# Altium footprint library HVSSOP_DGN.PcbLib: 3 footprints
Each footprint in its own frame and in the unit in brackets; x right, y up, seen from the top. Pads: shape width x height; smd on the part's side, far side on the other; paste and mask are expansions set on the pad; w line width, h text height; cw(c..) or ccw(c..) is an arc to the next point about the centre after c.
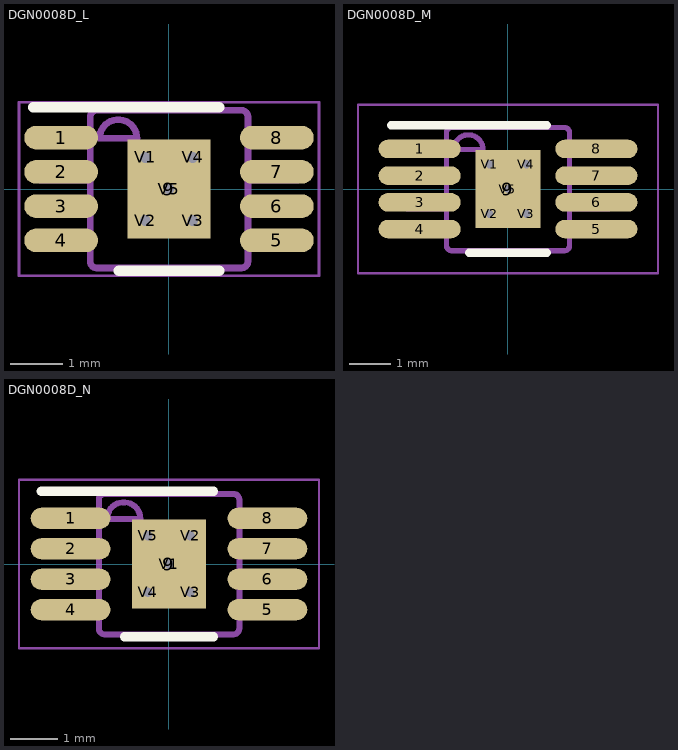
[diagram p0: the footprints below, top view; thin cyan lines are the x and y axes]

## DGN0008D_L [mm]
pads (14):
  oval 1.4x0.45 smd paste+0 mask+0.051: 1(-2.05,0.975) 2(-2.05,0.325) 3(-2.05,-0.325) 4(-2.05,-0.975) 5(2.05,-0.975) 6(2.05,-0.325) 7(2.05,0.325) 8(2.05,0.975)
  rect 1.57x1.89 smd paste+0 mask+0.051: 9(0,0)
  round 0.5 hole 0.203 mask+0.051: V1(-0.45,0.6) V2(-0.45,-0.6) V3(0.45,-0.6) V4(0.45,0.6) V5(0,0)
Top Overlay:
  lines w0.2: -2.575,1.55 0.95,1.55 ; -0.95,-1.55 0.95,-1.55
Mechanical 13:
  lines w0.127: -2.45,-1.131 -2.21,-1.131 -2.09,-1.131 -2.087,-1.131 -1.784,-1.131 -1.498,-1.131 -1.498,-0.826 -1.784,-0.826 -2.087,-0.826 -2.09,-0.826 -2.21,-0.826 -2.45,-0.826 -2.45,-1.131 ; -2.45,-0.48 -2.21,-0.48 -2.09,-0.48 -2.087,-0.48 -1.784,-0.48 -1.498,-0.48 -1.498,-0.175 -1.784,-0.175 -2.087,-0.175 -2.09,-0.175 -2.21,-0.175 -2.45,-0.175 -2.45,-0.48 ; -2.45,0.17 -2.21,0.17 -2.09,0.17 -2.087,0.17 -1.784,0.17 -1.498,0.17 -1.498,0.475 -1.784,0.475 -2.087,0.475 -2.09,0.475 -2.21,0.475 -2.45,0.475 -2.45,0.17 ; -2.45,0.82 -2.21,0.82 -2.09,0.82 -2.087,0.82 -1.784,0.82 -1.498,0.82 -1.498,1.125 -1.784,1.125 -2.087,1.125 -2.09,1.125 -2.21,1.125 -2.45,1.125 -2.45,0.82 ; -1.497,-1.377 ccw(c-1.37,-1.374) -1.373,-1.501 -1.371,-1.501 1.373,-1.501 1.375,-1.501 ccw(c1.373,-1.374) 1.5,-1.377 1.5,-1.374 1.5,1.369 1.5,1.372 ccw(c1.373,1.369) 1.375,1.496 1.373,1.496 -1.371,1.496 -1.373,1.496 ccw(c-1.37,1.369) -1.497,1.372 -1.498,1.369 -1.498,-1.374 -1.497,-1.377 ; -1.32,0.962 cw(c-0.964,0.962) -0.609,0.962 -1.32,0.962 ; 1.5,-1.131 1.5,-0.826 1.786,-0.826 2.089,-0.826 2.093,-0.826 2.213,-0.826 2.452,-0.826 2.452,-1.131 2.213,-1.131 2.093,-1.131 2.089,-1.131 1.786,-1.131 1.5,-1.131 ; 1.5,-0.48 1.5,-0.175 1.786,-0.175 2.089,-0.175 2.093,-0.175 2.213,-0.175 2.452,-0.175 2.452,-0.48 2.213,-0.48 2.093,-0.48 2.089,-0.48 1.786,-0.48 1.5,-0.48 ; 1.5,0.17 1.5,0.475 1.786,0.475 2.089,0.475 2.093,0.475 2.213,0.475 2.452,0.475 2.452,0.17 2.213,0.17 2.093,0.17 2.089,0.17 1.786,0.17 1.5,0.17 ; 1.5,0.82 1.5,1.125 1.786,1.125 2.089,1.125 2.093,1.125 2.213,1.125 2.452,1.125 2.452,0.82 2.213,0.82 2.093,0.82 2.089,0.82 1.786,0.82 1.5,0.82
  text ".Designator" at -1.175,-0.96 h1.27
Mechanical 15:
  lines w0.05: -2.85,-1.65 2.85,-1.65 2.85,1.65 -2.85,1.65 -2.85,-1.65
  lines w0.1: -0.5,0 0.5,0 ; 0,-0.5 0,0.5
3D body "HVSSOP_DGN8D.stp": height 0.96, standoff -0.11, extent -2.45,-1.5 2.45,1.5

## DGN0008D_M [mm]
pads (14):
  oval 2x0.45 smd paste+0 mask+0.051: 1(-2.15,0.975) 2(-2.15,0.325) 3(-2.15,-0.325) 4(-2.15,-0.975) 5(2.15,-0.975) 6(2.15,-0.325) 7(2.15,0.325) 8(2.15,0.975)
  rect 1.57x1.89 smd paste+0 mask+0.051: 9(0,0)
  round 0.5 hole 0.203 mask+0.051: V1(-0.45,0.6) V2(-0.45,-0.6) V3(0.45,-0.6) V4(0.45,0.6) V5(0,0)
Top Overlay:
  lines w0.2: -2.85,1.55 0.95,1.55 ; -0.95,-1.55 0.95,-1.55
Mechanical 13:
  lines w0.127: -2.45,-1.131 -2.45,-0.826 -2.21,-0.826 -2.09,-0.826 -2.087,-0.826 -1.784,-0.826 -1.498,-0.826 -1.498,-1.131 -1.784,-1.131 -2.087,-1.131 -2.09,-1.131 -2.21,-1.131 -2.45,-1.131 ; -2.45,-0.48 -2.45,-0.175 -2.21,-0.175 -2.09,-0.175 -2.087,-0.175 -1.784,-0.175 -1.498,-0.175 -1.498,-0.48 -1.784,-0.48 -2.087,-0.48 -2.09,-0.48 -2.21,-0.48 -2.45,-0.48 ; -2.45,0.17 -2.45,0.475 -2.21,0.475 -2.09,0.475 -2.087,0.475 -1.784,0.475 -1.498,0.475 -1.498,0.17 -1.784,0.17 -2.087,0.17 -2.09,0.17 -2.21,0.17 -2.45,0.17 ; -2.45,0.82 -2.45,1.125 -2.21,1.125 -2.09,1.125 -2.087,1.125 -1.784,1.125 -1.498,1.125 -1.498,0.82 -1.784,0.82 -2.087,0.82 -2.09,0.82 -2.21,0.82 -2.45,0.82 ; -1.497,-1.377 ccw(c-1.37,-1.374) -1.373,-1.501 -1.371,-1.501 1.373,-1.501 1.375,-1.501 ccw(c1.373,-1.374) 1.5,-1.377 1.5,-1.374 1.5,1.369 1.5,1.372 ccw(c1.373,1.369) 1.375,1.496 1.373,1.496 -1.371,1.496 -1.373,1.496 ccw(c-1.37,1.369) -1.497,1.372 -1.498,1.369 -1.498,-1.374 -1.497,-1.377 ; -1.32,0.962 cw(c-0.964,0.962) -0.609,0.962 -1.32,0.962 ; 1.5,-1.131 1.786,-1.131 2.089,-1.131 2.093,-1.131 2.213,-1.131 2.452,-1.131 2.452,-0.826 2.213,-0.826 2.093,-0.826 2.089,-0.826 1.786,-0.826 1.5,-0.826 1.5,-1.131 ; 1.5,-0.48 1.786,-0.48 2.089,-0.48 2.093,-0.48 2.213,-0.48 2.452,-0.48 2.452,-0.175 2.213,-0.175 2.093,-0.175 2.089,-0.175 1.786,-0.175 1.5,-0.175 1.5,-0.48 ; 1.5,0.17 1.786,0.17 2.089,0.17 2.093,0.17 2.213,0.17 2.452,0.17 2.452,0.475 2.213,0.475 2.093,0.475 2.089,0.475 1.786,0.475 1.5,0.475 1.5,0.17 ; 1.5,0.82 1.786,0.82 2.089,0.82 2.093,0.82 2.213,0.82 2.452,0.82 2.452,1.125 2.213,1.125 2.093,1.125 2.089,1.125 1.786,1.125 1.5,1.125 1.5,0.82
  text ".Designator" at -1.175,-0.96 h1.27
Mechanical 15:
  lines w0.05: -3.65,-2.05 -3.65,2.05 3.65,2.05 3.65,-2.05 -3.65,-2.05
  lines w0.1: -0.5,0 0.5,0 ; 0,-0.5 0,0.5
3D body: height 0.25, standoff 0, extent 0,0 0.254,0.254
3D body "HVSSOP_DGN8D.stp": height 0.96, standoff -0.11, extent -2.45,-1.5 2.45,1.5

## DGN0008D_N [mm]
pads (14):
  oval 1.7x0.45 smd paste+0 mask+0.051: 1(-2.1,0.975) 2(-2.1,0.325) 3(-2.1,-0.325) 4(-2.1,-0.975) 5(2.1,-0.975) 6(2.1,-0.325) 7(2.1,0.325) 8(2.1,0.975)
  rect 1.57x1.89 smd paste+0 mask+0.051: 9(0,0)
  round 0.5 hole 0.203 mask+0.051: V1(0,0) V2(0.45,0.6) V3(0.45,-0.6) V4(-0.45,-0.6) V5(-0.45,0.6)
Top Overlay:
  lines w0.2: -2.725,1.55 0.95,1.55 ; -0.95,-1.55 0.95,-1.55
Mechanical 13:
  lines w0.127: -2.45,-1.131 -2.45,-0.826 -2.21,-0.826 -2.09,-0.826 -2.087,-0.826 -1.784,-0.826 -1.498,-0.826 -1.498,-1.131 -1.784,-1.131 -2.087,-1.131 -2.09,-1.131 -2.21,-1.131 -2.45,-1.131 ; -2.45,-0.48 -2.45,-0.175 -2.21,-0.175 -2.09,-0.175 -2.087,-0.175 -1.784,-0.175 -1.498,-0.175 -1.498,-0.48 -1.784,-0.48 -2.087,-0.48 -2.09,-0.48 -2.21,-0.48 -2.45,-0.48 ; -2.45,0.17 -2.45,0.475 -2.21,0.475 -2.09,0.475 -2.087,0.475 -1.784,0.475 -1.498,0.475 -1.498,0.17 -1.784,0.17 -2.087,0.17 -2.09,0.17 -2.21,0.17 -2.45,0.17 ; -2.45,0.82 -2.45,1.125 -2.21,1.125 -2.09,1.125 -2.087,1.125 -1.784,1.125 -1.498,1.125 -1.498,0.82 -1.784,0.82 -2.087,0.82 -2.09,0.82 -2.21,0.82 -2.45,0.82 ; -1.497,-1.377 ccw(c-1.37,-1.374) -1.373,-1.501 -1.371,-1.501 1.373,-1.501 1.375,-1.501 ccw(c1.373,-1.374) 1.5,-1.377 1.5,-1.374 1.5,1.369 1.5,1.372 ccw(c1.373,1.369) 1.375,1.496 1.373,1.496 -1.371,1.496 -1.373,1.496 ccw(c-1.37,1.369) -1.497,1.372 -1.498,1.369 -1.498,-1.374 -1.497,-1.377 ; -1.32,0.962 cw(c-0.964,0.962) -0.609,0.962 -1.32,0.962 ; 1.5,-1.131 1.786,-1.131 2.089,-1.131 2.093,-1.131 2.213,-1.131 2.452,-1.131 2.452,-0.826 2.213,-0.826 2.093,-0.826 2.089,-0.826 1.786,-0.826 1.5,-0.826 1.5,-1.131 ; 1.5,-0.48 1.786,-0.48 2.089,-0.48 2.093,-0.48 2.213,-0.48 2.452,-0.48 2.452,-0.175 2.213,-0.175 2.093,-0.175 2.089,-0.175 1.786,-0.175 1.5,-0.175 1.5,-0.48 ; 1.5,0.17 1.786,0.17 2.089,0.17 2.093,0.17 2.213,0.17 2.452,0.17 2.452,0.475 2.213,0.475 2.093,0.475 2.089,0.475 1.786,0.475 1.5,0.475 1.5,0.17 ; 1.5,0.82 1.786,0.82 2.089,0.82 2.093,0.82 2.213,0.82 2.452,0.82 2.452,1.125 2.213,1.125 2.093,1.125 2.089,1.125 1.786,1.125 1.5,1.125 1.5,0.82
  text ".Designator" at -1.175,-0.96 h1.27
Mechanical 15:
  lines w0.05: -3.2,-1.8 3.2,-1.8 3.2,1.8 -3.2,1.8 -3.2,-1.8
  lines w0.1: -0.5,0 0.5,0 ; 0,-0.5 0,0.5
3D body "HVSSOP_DGN8D.stp": height 0.96, standoff -0.11, extent -2.45,-1.5 2.45,1.5
3D body: height 0.25, standoff 0, extent 0,0 0.254,0.254